# EAGLE library part ULN2803 (library Skoba)
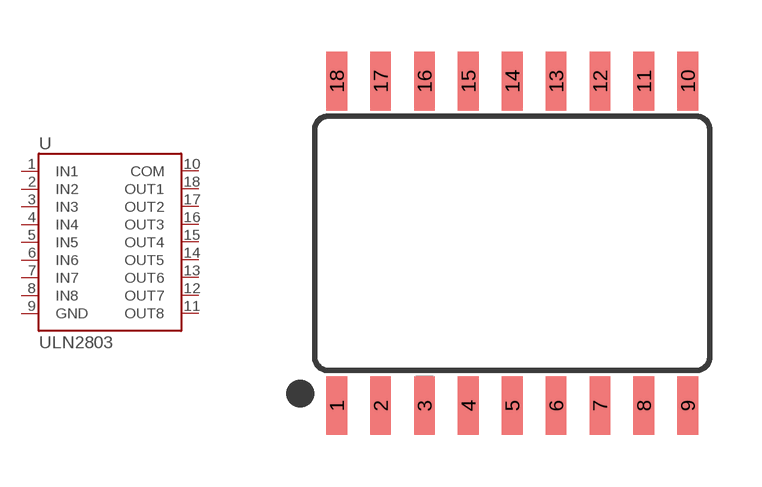
[diagram p52: symbol with the pads of SO18W-7.5; footprint SO18W-7.5]

Designator prefix U

## ULN2803  [SO18W-7.5]
1  IN1
2  IN2
3  IN3
4  IN4
5  IN5
6  IN6
7  IN7
8  IN8
9  GND
10  COM
11  OUT8
12  OUT7
13  OUT6
14  OUT5
15  OUT4
16  OUT3
17  OUT2
18  OUT1

## Footprint SO18W-7.5 (pad centres in mm)
smd 0.6 x 1.7: 1 -4.445,-4.7; 2 -3.175,-4.7; 3 -1.905,-4.7; 4 -0.635,-4.7; 5 0.635,-4.7; 6 1.905,-4.7; 7 3.175,-4.7; 8 4.445,-4.7; 9 5.715,-4.7; 10 5.715,4.7; 11 4.445,4.7; 12 3.175,4.7; 13 1.905,4.7; 14 0.635,4.7; 15 -0.635,4.7; 16 -1.905,4.7; 17 -3.175,4.7; 18 -4.445,4.7